# EAGLE library part ESP32-WROOM-32_EMBEDDED (library ZHAW_BA)
ESP32 Mikrokontroller, Embedded in PCB um höhe zu minimieren Distrelec: Pt.Nr: 301-29-219 https://www.distrelec.ch/de/esp32-wlan-bt-ble-mcu-modul-adafruit-3320/p/30129219?track=true&no-cache=true&marketingPopup=false DigiKey: Pt.Nr: 1528-1801-ND https://www.digikey.ch/product-detail/de/adafruit-industries-llc/3320/1528-1801-ND/6560941
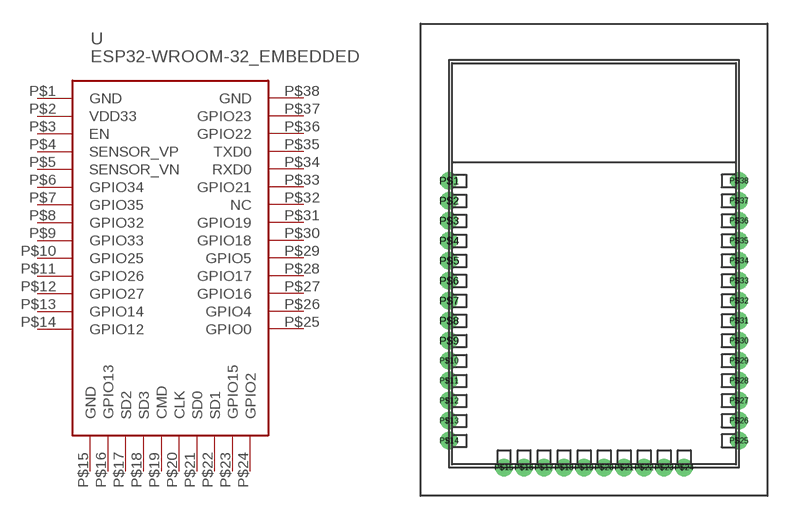
[diagram p1: symbol with the pads of ESP32-WROOM-32_EMBEDDED; footprint ESP32-WROOM-32_EMBEDDED]

Designator prefix U

## ESP32-WROOM-32_EMBEDDEDEMBEDDED  [ESP32-WROOM-32_EMBEDDED]
P$1  GND
P$2  VDD33
P$3  EN
P$4  SENSOR_VP
P$5  SENSOR_VN
P$6  GPIO34
P$7  GPIO35
P$8  GPIO32
P$9  GPIO33
P$10  GPIO25
P$11  GPIO26
P$12  GPIO27
P$13  GPIO14
P$14  GPIO12
P$15  GND
P$16  GPIO13
P$17  SD2
P$18  SD3
P$19  CMD
P$20  CLK
P$21  SD0
P$22  SD1
P$23  GPIO15
P$24  GPIO2
P$25  GPIO0
P$26  GPIO4
P$27  GPIO16
P$28  GPIO17
P$29  GPIO5
P$30  GPIO18
P$31  GPIO19
P$32  NC
P$33  GPIO21
P$34  RXD0
P$35  TXD0
P$36  GPIO22
P$37  GPIO23
P$38  GND

## Footprint ESP32-WROOM-32_EMBEDDED (pad centres in mm)
drill 0.6 pad 1: P$1 -0.2,18.01; P$2 -0.2,16.74; P$3 -0.2,15.47; P$4 -0.2,14.2; P$5 -0.2,12.93; P$6 -0.2,11.66; P$7 -0.2,10.39; P$8 -0.2,9.12; P$9 -0.2,7.85; P$10 -0.2,6.58; P$11 -0.2,5.31; P$12 -0.2,4.04; P$13 -0.2,2.77; P$14 -0.2,1.5; P$15 3.285,-0.2; P$16 4.555,-0.2; P$17 5.825,-0.2; P$18 7.095,-0.2; P$19 8.365,-0.2; P$20 9.635,-0.2; P$21 10.905,-0.2; P$22 12.175,-0.2; P$23 13.445,-0.2; P$24 14.715,-0.2; P$25 18.2,1.5; P$26 18.2,2.77; P$27 18.2,4.04; P$28 18.2,5.31; P$29 18.2,6.58; P$30 18.2,7.85; P$31 18.2,9.12; P$32 18.2,10.39; P$33 18.2,11.66; P$34 18.2,12.93; P$35 18.2,14.2; P$36 18.2,15.47; P$37 18.2,16.74; P$38 18.2,18.01